# Altium schematic symbol library eic_lib.SchLib: 10 symbols
Pins are listed as number, name and electrical type; pins without a type are passive.

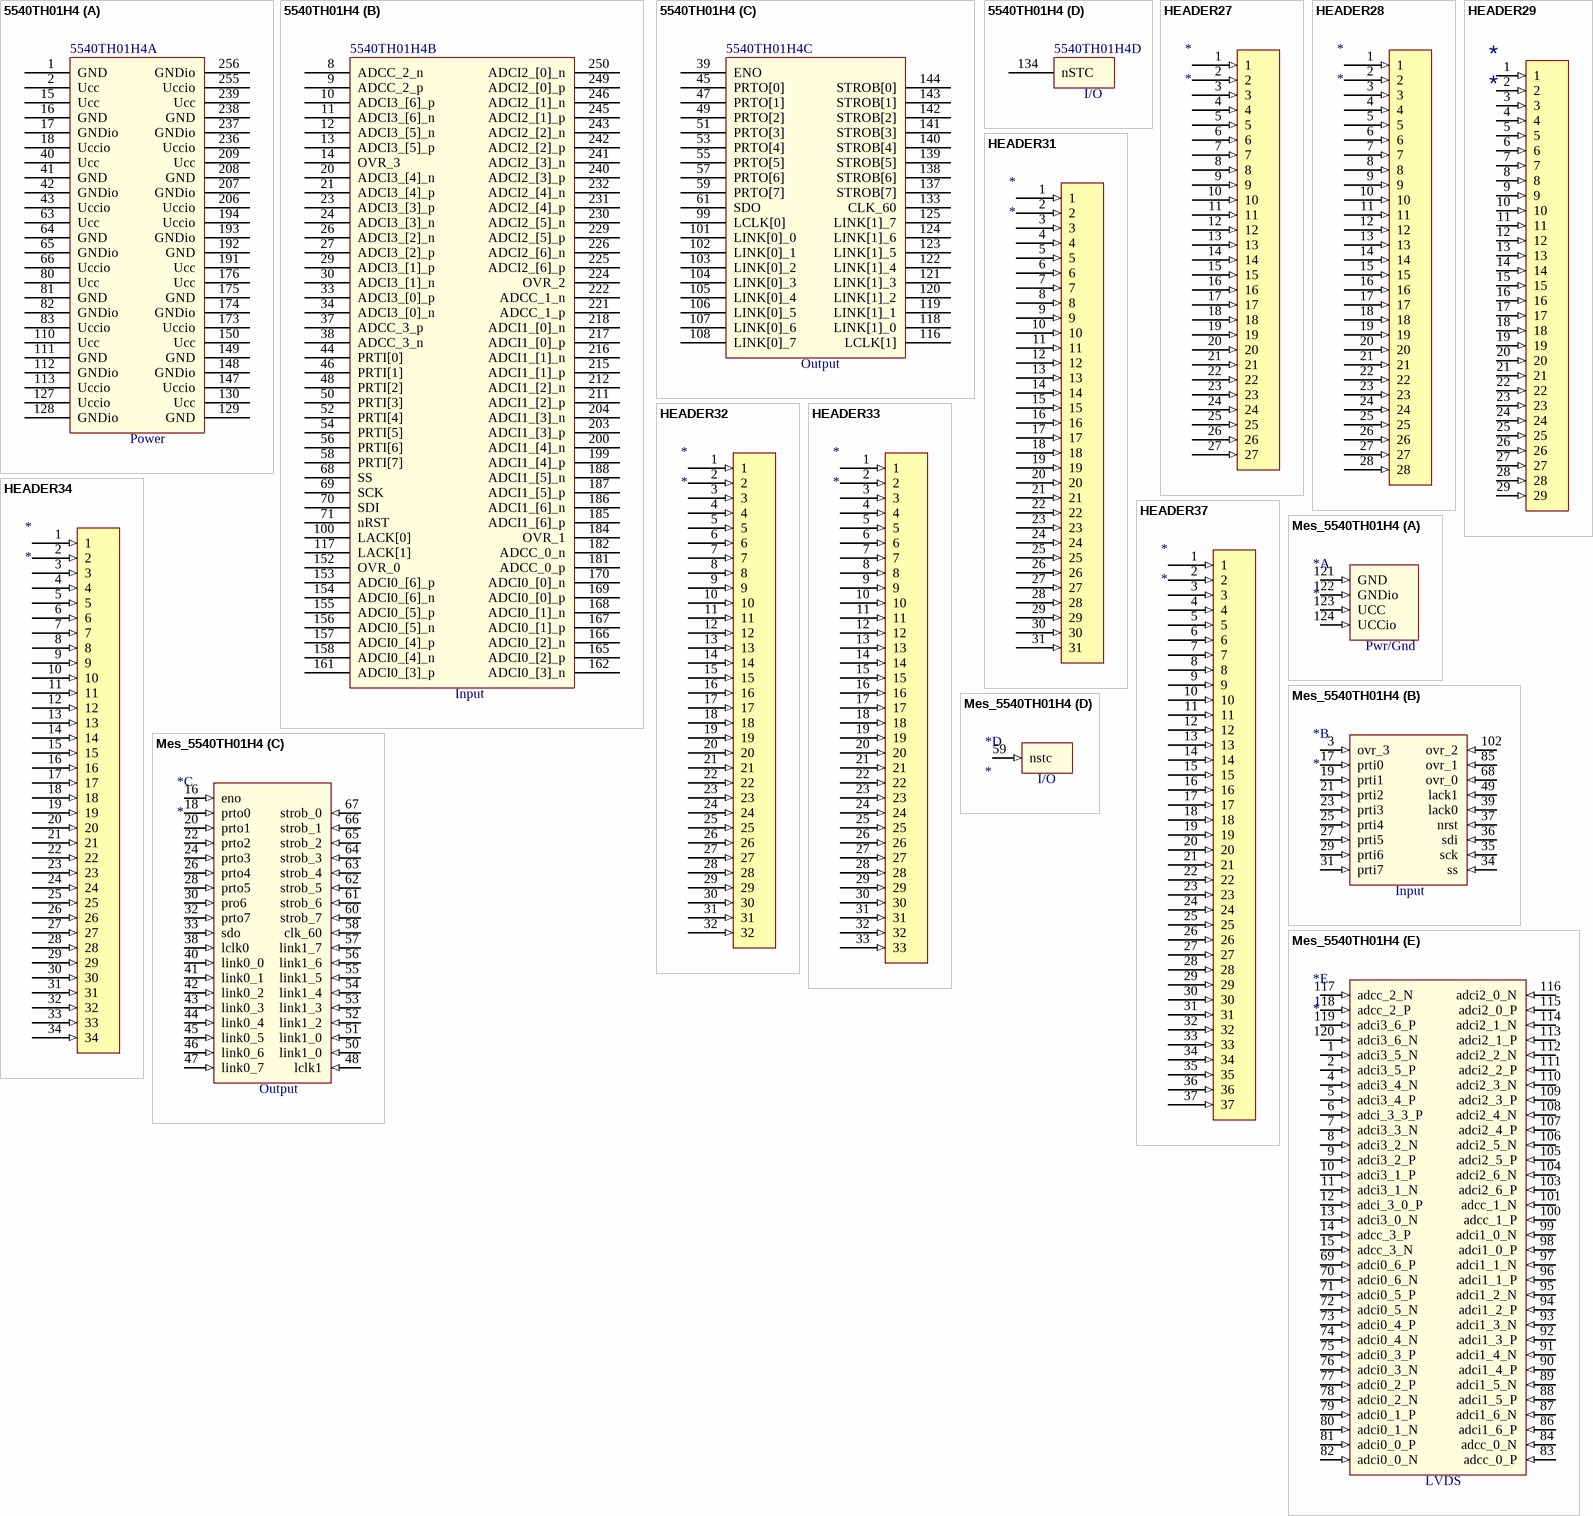
[diagram p0: symbols 5540TH01H4 to Mes_5540TH01H4]

## 5540TH01H4
designator 5540TH01H4
footprint 5540TH01H4
part A pins: 1 GND (power) "общие выводы ядра (GND)", 2 Ucc (power) "питающие выводы ядра  (Uсс)", 15 Ucc (power) "питающие выводы ядра  (Uсс)", 16 GND (power) "общие выводы ядра (GND)", 17 GNDio (power) "общие выводы портов ввода вывода (GNDio)", 18 Uccio (power) "питающие выводы портов ввода вывода  (Uссio)", 40 Ucc (power) "питающие выводы ядра  (Uсс)", 41 GND (power) "общие выводы ядра (GND)", 42 GNDio (power) "общие выводы портов ввода вывода (GNDio)", 43 Uccio (power) "питающие выводы портов ввода вывода  (Uссio)", 63 Ucc (power) "питающие выводы ядра  (Uсс)", 64 GND (power) "общие выводы ядра (GND)", 65 GNDio (power) "общие выводы портов ввода вывода (GNDio)", 66 Uccio (power) "питающие выводы портов ввода вывода  (Uссio)", 80 Ucc (power) "питающие выводы ядра  (Uсс)", 81 GND (power) "общие выводы ядра (GND)", 82 GNDio (power) "общие выводы портов ввода вывода (GNDio)", 83 Uccio (power) "питающие выводы портов ввода вывода  (Uссio)", 110 Ucc (power) "питающие выводы ядра  (Uсс)", 111 GND (power) "общие выводы ядра (GND)", 112 GNDio (power) "общие выводы портов ввода вывода (GNDio)", 113 Uccio (power) "питающие выводы портов ввода вывода  (Uссio)", 127 Uccio (power) "питающие выводы портов ввода вывода  (Uссio)", 128 GNDio (power) "общие выводы портов ввода вывода (GNDio)", 129 GND (power) "общие выводы ядра (GND)", 130 Ucc (power) "питающие выводы ядра  (Uсс)", 147 Uccio (power) "питающие выводы портов ввода вывода  (Uссio)", 148 GNDio (power) "общие выводы портов ввода вывода (GNDio)", 149 GND (power) "общие выводы ядра (GND)", 150 Ucc (power) "питающие выводы ядра  (Uсс)", 173 Uccio (power) "питающие выводы портов ввода вывода  (Uссio)", 174 GNDio (power) "общие выводы портов ввода вывода (GNDio)", 175 GND (power) "общие выводы ядра (GND)", 176 Ucc (power) "питающие выводы ядра  (Uсс)", 191 Ucc (power) "питающие выводы ядра  (Uсс)", 192 GND (power) "общие выводы ядра (GND)", 193 GNDio (power) "общие выводы портов ввода вывода (GNDio)", 194 Uccio (power) "питающие выводы портов ввода вывода  (Uссio)", 206 Uccio (power) "питающие выводы портов ввода вывода  (Uссio)", 207 GNDio (power) "общие выводы портов ввода вывода (GNDio)", 208 GND (power) "общие выводы ядра (GND)", 209 Ucc (power) "питающие выводы ядра  (Uсс)", 236 Uccio (power) "питающие выводы портов ввода вывода  (Uссio)", 237 GNDio (power) "общие выводы портов ввода вывода (GNDio)", 238 GND (power) "общие выводы ядра (GND)", 239 Ucc (power) "питающие выводы ядра  (Uсс)", 255 Uccio (power) "питающие выводы портов ввода вывода  (Uссio)", 256 GNDio (power) "общие выводы портов ввода вывода (GNDio)"
part B pins: 8 ADCC_2_n "Отрицательный вход стробирования данных АЦП_2", 9 ADCC_2_p "Положительный вход стробирования данных АЦП_2", 10 ADCI3_[6]_p "Положительный вход данных 6 разряда АЦП_3-", 11 ADCI3_[6]_n "Отрицательный вход данных 6 разряда АЦП_3", 12 ADCI3_[5]_n "Отрицательный вход данных 5 разряда АЦП_3", 13 ADCI3_[5]_p "Положительный вход данных 5 разряда АЦП_3", 14 OVR_3 "Вход переполнения АЦП_3", 20 ADCI3_[4]_n "Положительный вход данных 4 разряда АЦП_3", 21 ADCI3_[4]_p "Отрицательный вход данных 4 разряда АЦП_3", 23 ADCI3_[3]_p "Положительный вход данных 3 разряда АЦП_3", 24 ADCI3_[3]_n "Отрицательный вход данных 3 разряда АЦП_3", 26 ADCI3_[2]_n "Положительный вход данных 2 разряда АЦП_3", 27 ADCI3_[2]_p "Отрицательный вход данных 2 разряда АЦП_3", 29 ADCI3_[1]_p "Положительный вход данных 1 разряда АЦП_3", 30 ADCI3_[1]_n "Отрицательный вход данных 1 разряда АЦП_3", 33 ADCI3_[0]_p "Положительный вход данных 0 разряда АЦП_3", 34 ADCI3_[0]_n "Отрицательный вход данных 0 разряда АЦП_3", 37 ADCC_3_p "Положительный вход стробирования данных АЦП_3", 38 ADCC_3_n "Отрицательный вход стробирования данных АЦП_3", 44 PRTI[0] "Вход шины данных 0 разряда пользовательского назначения", 46 PRTI[1] "Вход шины данных 1 разряда пользовательского назначения", 48 PRTI[2] "Вход шины данных 2 разряда пользовательского назначения", 50 PRTI[3] "Вход шины данных 3 разряда пользовательского назначения", 52 PRTI[4] "Вход шины данных 4 разряда пользовательского назначения", 54 PRTI[5] "Вход шины данных 5 разряда пользовательского назначения", 56 PRTI[6] "Вход шины данных 6 разряда пользовательского назначения", 58 PRTI[7] "Вход шины данных 7 разряда пользовательского назначения", 68 SS "Выбор кристалла", 69 SCK "Строб данных", 70 SDI "Вход данных", 71 nRST "Начальный сброс", 100 LACK[0] "Подтверждение/Готовность по LINK_0", 117 LACK[1] "Подтверждение/Готовность по LINK_1", 152 OVR_0 "Вход переполнения АЦП_0", 153 ADCI0_[6]_p "Положительный вход данных 6 разряда АЦП_0", 154 ADCI0_[6]_n "Отрицательный вход данных 6 разряда АЦП_0", 155 ADCI0_[5]_p "Положительный вход данных 5 разряда АЦП_0", 156 ADCI0_[5]_n "Отрицательный вход данных 5 разряда АЦП_0", 157 ADCI0_[4]_p "Положительный вход данных 4 разряда АЦП_0", 158 ADCI0_[4]_n "Отрицательный вход данных 4 разряда АЦП_0", 161 ADCI0_[3]_p "Положительный вход данных 3 разряда АЦП_0", 162 ADCI0_[3]_n "Отрицательный вход данных 3 разряда АЦП_0", 165 ADCI0_[2]_p "Положительный вход данных 2 разряда АЦП_0", 166 ADCI0_[2]_n "Отрицательный вход данных 2 разряда АЦП_0", 167 ADCI0_[1]_p "Положительный вход данных 1 разряда АЦП_0", 168 ADCI0_[1]_n "Отрицательный вход данных 1 разряда АЦП_0", 169 ADCI0_[0]_p "Положительный вход данных 0 разряда АЦП_0", 170 ADCI0_[0]_n "Отрицательный вход данных 0 разряда АЦП_0", 181 ADCC_0_p "Положительный вход стробирования данных АЦП_0", 182 ADCC_0_n "Отрицательный вход стробирования данных АЦП_0", 184 OVR_1 "Вход переполнения АЦП_1", 185 ADCI1_[6]_p "Положительный вход данных 6 разряда АЦП_1", 186 ADCI1_[6]_n "Отрицательный вход данных 6 разряда АЦП_1", 187 ADCI1_[5]_p "Положительный вход данных 5 разряда АЦП_1", 188 ADCI1_[5]_n "Отрицательный вход данных 5 разряда АЦП_1", 199 ADCI1_[4]_p "Положительный вход данных 4 разряда АЦП_1", 200 ADCI1_[4]_n "Отрицательный вход данных 4 разряда АЦП_1", 203 ADCI1_[3]_p "Положительный вход данных 3 разряда АЦП_1", 204 ADCI1_[3]_n "Отрицательный вход данных 3 разряда АЦП_1", 211 ADCI1_[2]_p "Положительный вход данных 2 разряда АЦП_1", 212 ADCI1_[2]_n "Отрицательный вход данных 2 разряда АЦП_1", 215 ADCI1_[1]_p "Положительный вход данных 1 разряда АЦП_1", 216 ADCI1_[1]_n "Отрицательный вход данных 1 разряда АЦП_1", 217 ADCI1_[0]_p "Положительный вход данных 0 разряда АЦП_1", 218 ADCI1_[0]_n "Отрицательный вход данных 0 разряда АЦП_1", 221 ADCC_1_p "Положительный вход стробирования данных АЦП_1", 222 ADCC_1_n "Отрицательный вход стробирования данных АЦП_1", 224 OVR_2 "Вход переполнения АЦП_2", 225 ADCI2_[6]_p "Положительный вход данных 6 разряда АЦП_2", 226 ADCI2_[6]_n "Отрицательный вход данных 6 разряда АЦП_2", 229 ADCI2_[5]_p "Положительный вход данных 5 разряда АЦП_2", 230 ADCI2_[5]_n "Отрицательный вход данных 5 разряда АЦП_2", 231 ADCI2_[4]_p "Положительный вход данных 4 разряда АЦП_2", 232 ADCI2_[4]_n "Отрицательный вход данных 4 разряда АЦП_2", 240 ADCI2_[3]_p "Положительный вход данных 3 разряда АЦП_2", 241 ADCI2_[3]_n "Отрицательный вход данных 3 разряда АЦП_2", 242 ADCI2_[2]_p "Положительный вход данных 2 разряда АЦП_2", 243 ADCI2_[2]_n "Отрицательный вход данных 2 разряда АЦП_2", 245 ADCI2_[1]_p "Положительный вход данных 1 разряда АЦП_2", 246 ADCI2_[1]_n "Отрицательный вход данных 1 разряда АЦП_2", 249 ADCI2_[0]_p "Положительный вход данных 0 разряда АЦП_2", 250 ADCI2_[0]_n "Отрицательный вход данных 0 разряда АЦП_2"
part C pins: 39 ENO "Готовность данных", 45 PRTO[0] "Выход шины данных 0 разряда пользовательского назначения", 47 PRTO[1] "Выход шины данных 1 разряда пользовательского назначения", 49 PRTO[2] "Выход шины данных 2 разряда пользовательского назначения", 51 PRTO[3] "Выход шины данных 3 разряда пользовательского назначения", 53 PRTO[4] "Выход шины данных 4 разряда пользовательского назначения", 55 PRTO[5] "Выход шины данных 5 разряда пользовательского назначения", 57 PRTO[6] "Выход шины данных 6 разряда пользовательского назначения", 59 PRTO[7] "Выход шины данных 7 разряда пользовательского назначения", 61 SDO "Выход данных", 99 LCLK[0] "Синхронизация по LINK_0", 101 LINK[0]_0 "Выход шины данных 0 разряда LINK_0", 102 LINK[0]_1 "Выход шины данных 1 разряда LINK_0", 103 LINK[0]_2 "Выход шины данных 2 разряда LINK_0", 104 LINK[0]_3 "Выход шины данных 3 разряда LINK_0", 105 LINK[0]_4 "Выход шины данных 4 разряда LINK_0", 106 LINK[0]_5 "Выход шины данных 5 разряда LINK_0", 107 LINK[0]_6 "Выход шины данных 6 разряда LINK_0", 108 LINK[0]_7 "Выход шины данных 7 разряда LINK_0", 116 LCLK[1] "Синхронизация по LINK_1", 118 LINK[1]_0 "Выход шины данных 0 разряда LINK_1", 119 LINK[1]_1 "Выход шины данных 1 разряда LINK_1", 120 LINK[1]_2 "Выход шины данных 2 разряда LINK_1", 121 LINK[1]_3 "Выход шины данных 3 разряда LINK_1", 122 LINK[1]_4 "Выход шины данных 4 разряда LINK_1", 123 LINK[1]_5 "Выход шины данных 5 разряда LINK_1", 124 LINK[1]_6 "Выход шины данных 6 разряда LINK_1", 125 LINK[1]_7 "Выход шины данных 7 разряда LINK_1", 133 CLK_60 "Выход тактовой частоты 60 МГц", 137 STROB[7] "Строб управления 7", 138 STROB[6] "Строб управления 6", 139 STROB[5] "Строб управления 5", 140 STROB[4] "Строб управления 4", 141 STROB[3] "Строб управления 3", 142 STROB[2] "Строб управления 2", 143 STROB[1] "Строб управления 1", 144 STROB[0] "Строб управления 0"
part D pins: 134 nSTC "Вход/Выход синхронизации"
part A text: Power
part B text: Input
part C text: Output
part D text: I/O

## HEADER27
designator *
footprint HEADER27
pins: 1 (in), 2 (in), 3 (in), 4 (in), 5 (in), 6 (in), 7 (in), 8 (in), 9 (in), 10 (in), 11 (in), 12 (in), 13 (in), 14 (in), 15 (in), 16 (in), 17 (in), 18 (in), 19 (in), 20 (in), 21 (in), 22 (in), 23 (in), 24 (in), 25 (in), 26 (in), 27 (in)

## HEADER28
designator *
footprint HEADER28
pins: 1 (in), 2 (in), 3 (in), 4 (in), 5 (in), 6 (in), 7 (in), 8 (in), 9 (in), 10 (in), 11 (in), 12 (in), 13 (in), 14 (in), 15 (in), 16 (in), 17 (in), 18 (in), 19 (in), 20 (in), 21 (in), 22 (in), 23 (in), 24 (in), 25 (in), 26 (in), 27 (in), 28 (in)

## HEADER29
designator *
footprint HEADER29
pins: 1 (in), 2 (in), 3 (in), 4 (in), 5 (in), 6 (in), 7 (in), 8 (in), 9 (in), 10 (in), 11 (in), 12 (in), 13 (in), 14 (in), 15 (in), 16 (in), 17 (in), 18 (in), 19 (in), 20 (in), 21 (in), 22 (in), 23 (in), 24 (in), 25 (in), 26 (in), 27 (in), 28 (in), 29 (in)

## HEADER31
designator *
footprint HEADER31
pins: 1 (in), 2 (in), 3 (in), 4 (in), 5 (in), 6 (in), 7 (in), 8 (in), 9 (in), 10 (in), 11 (in), 12 (in), 13 (in), 14 (in), 15 (in), 16 (in), 17 (in), 18 (in), 19 (in), 20 (in), 21 (in), 22 (in), 23 (in), 24 (in), 25 (in), 26 (in), 27 (in), 28 (in), 29 (in), 30 (in), 31 (in)

## HEADER32
designator *
footprint HEADER32
pins: 1 (in), 2 (in), 3 (in), 4 (in), 5 (in), 6 (in), 7 (in), 8 (in), 9 (in), 10 (in), 11 (in), 12 (in), 13 (in), 14 (in), 15 (in), 16 (in), 17 (in), 18 (in), 19 (in), 20 (in), 21 (in), 22 (in), 23 (in), 24 (in), 25 (in), 26 (in), 27 (in), 28 (in), 29 (in), 30 (in), 31 (in), 32 (in)

## HEADER33
designator *
footprint HEADER33
pins: 1 (in), 2 (in), 3 (in), 4 (in), 5 (in), 6 (in), 7 (in), 8 (in), 9 (in), 10 (in), 11 (in), 12 (in), 13 (in), 14 (in), 15 (in), 16 (in), 17 (in), 18 (in), 19 (in), 20 (in), 21 (in), 22 (in), 23 (in), 24 (in), 25 (in), 26 (in), 27 (in), 28 (in), 29 (in), 30 (in), 31 (in), 32 (in), 33 (in)

## HEADER34
designator *
footprint HEADER34
pins: 1 (in), 2 (in), 3 (in), 4 (in), 5 (in), 6 (in), 7 (in), 8 (in), 9 (in), 10 (in), 11 (in), 12 (in), 13 (in), 14 (in), 15 (in), 16 (in), 17 (in), 18 (in), 19 (in), 20 (in), 21 (in), 22 (in), 23 (in), 24 (in), 25 (in), 26 (in), 27 (in), 28 (in), 29 (in), 30 (in), 31 (in), 32 (in), 33 (in), 34 (in)

## HEADER37
designator *
footprint Header37
pins: 1 (in), 2 (in), 3 (in), 4 (in), 5 (in), 6 (in), 7 (in), 8 (in), 9 (in), 10 (in), 11 (in), 12 (in), 13 (in), 14 (in), 15 (in), 16 (in), 17 (in), 18 (in), 19 (in), 20 (in), 21 (in), 22 (in), 23 (in), 24 (in), 25 (in), 26 (in), 27 (in), 28 (in), 29 (in), 30 (in), 31 (in), 32 (in), 33 (in), 34 (in), 35 (in), 36 (in), 37 (in)

## Mes_5540TH01H4
designator *
footprint Mes_5540TH01H4
part A pins: 121 GND (in), 122 GNDio (in), 123 UCC (in), 124 UCCio (in)
part B pins: 3 ovr_3 (in), 17 prti0 (in), 19 prti1 (in), 21 prti2 (in), 23 prti3 (in), 25 prti4 (in), 27 prti5 (in), 29 prti6 (in), 31 prti7 (in), 34 ss (in), 35 sck (in), 36 sdi (in), 37 nrst (in), 39 lack0 (in), 49 lack1 (in), 68 ovr_0 (in), 85 ovr_1 (in), 102 ovr_2 (in)
part C pins: 16 eno (in), 18 prto0 (in), 20 prto1 (in), 22 prto2 (in), 24 prto3 (in), 26 prto4 (in), 28 prto5 (in), 30 pro6 (in), 32 prto7 (in), 33 sdo (in), 38 lclk0 (in), 40 link0_0 (in), 41 link0_1 (in), 42 link0_2 (in), 43 link0_3 (in), 44 link0_4 (in), 45 link0_5 (in), 46 link0_6 (in), 47 link0_7 (in), 48 lclk1 (in), 50 link1_0 (in), 51 link1_0 (in), 52 link1_2 (in), 53 link1_3 (in), 54 link1_4 (in), 55 link1_5 (in), 56 link1_6 (in), 57 link1_7 (in), 58 clk_60 (in), 60 strob_7 (in), 61 strob_6 (in), 62 strob_5 (in), 63 strob_4 (in), 64 strob_3 (in), 65 strob_2 (in), 66 strob_1 (in), 67 strob_0 (in)
part D pins: 59 nstc (in)
part E pins: 1 adci3_5_N (in), 2 adci3_5_P (in), 4 adci3_4_N (in), 5 adci3_4_P (in), 6 adci_3_3_P (in), 7 adci3_3_N (in), 8 adci3_2_N (in), 9 adci3_2_P (in), 10 adci3_1_P (in), 11 adci3_1_N (in), 12 adci_3_0_P (in), 13 adci3_0_N (in), 14 adcc_3_P (in), 15 adcc_3_N (in), 69 adci0_6_P (in), 70 adci0_6_N (in), 71 adci0_5_P (in), 72 adci0_5_N (in), 73 adci0_4_P (in), 74 adci0_4_N (in), 75 adci0_3_P (in), 76 adci0_3_N (in), 77 adci0_2_P (in), 78 adci0_2_N (in), 79 adci0_1_P (in), 80 adci0_1_N (in), 81 adci0_0_P (in), 82 adci0_0_N (in), 83 adcc_0_P (in), 84 adcc_0_N (in), 86 adci1_6_P (in), 87 adci1_6_N (in), 88 adci1_5_P (in), 89 adci1_5_N (in), 90 adci1_4_P (in), 91 adci1_4_N (in), 92 adci1_3_P (in), 93 adci1_3_N (in), 94 adci1_2_P (in), 95 adci1_2_N (in), 96 adci1_1_P (in), 97 adci1_1_N (in), 98 adci1_0_P (in), 99 adci1_0_N (in), 100 adcc_1_P (in), 101 adcc_1_N (in), 103 adci2_6_P (in), 104 adci2_6_N (in), 105 adci2_5_P (in), 106 adci2_5_N (in), 107 adci2_4_P (in), 108 adci2_4_N (in), 109 adci2_3_P (in), 110 adci2_3_N (in), 111 adci2_2_P (in), 112 adci2_2_N (in), 113 adci2_1_P (in), 114 adci2_1_N (in), 115 adci2_0_P (in), 116 adci2_0_N (in), 117 adcc_2_N (in), 118 adcc_2_P (in), 119 adci3_6_P (in), 120 adci3_6_N (in)
part A text: Pwr/Gnd
part B text: Input
part C text: Output
part D text: I/O
part E text: LVDS